# EAGLE library part PRESSION_BUTTON (library CRD)
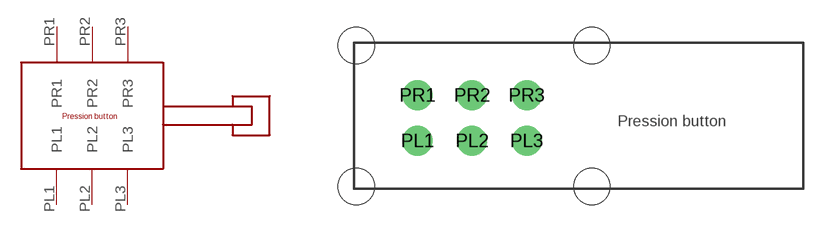
[diagram p4: symbol with the pads of PRESSION_BUTTON_FOOTPRINT; footprint PRESSION_BUTTON_FOOTPRINT]

Designator prefix -

## PRESSION_BUTTON  [PRESSION_BUTTON_FOOTPRINT]
PL1  PL1
PL2  PL2
PL3  PL3
PR1  PR1
PR2  PR2
PR3  PR3

## Footprint PRESSION_BUTTON_FOOTPRINT (pad centres in mm)
drill 1.1: PL1 -7.803,-1.302; PL2 -4.803,-1.302; PL3 -1.803,-1.302; PR1 -7.803,1.198; PR2 -4.803,1.198; PR3 -1.803,1.198
hole 2 at -11.176,3.937
hole 2 at -11.176,-3.81
hole 2 at 1.778,-3.81
hole 2 at 1.778,3.937